# Altium schematic symbol library Passive.SchLib: 3 symbols
Pins are listed as number, name and electrical type; pins without a type are passive.

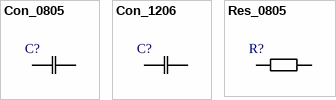
[diagram p0: symbols Con_0805 to Res_0805]

## Con_0805
designator C?  (value not drawn)
footprint CAP_0805
pins: 1, 2

## Con_1206
designator C?  (value not drawn)
footprint Cap_1206
pins: 1, 2

## Res_0805
designator R?  (value not drawn)
footprint Res_0805
pins: 1, 2